# Altium footprint library Package_SO.PcbLib: 393 footprints (part 11 of 25)
Each footprint in its own frame and in the unit in brackets; x right, y up, seen from the top. Pads: shape width x height; smd on the part's side, far side on the other; paste and mask are expansions set on the pad; w line width, h text height; cw(c..) or ccw(c..) is an arc to the next point about the centre after c.
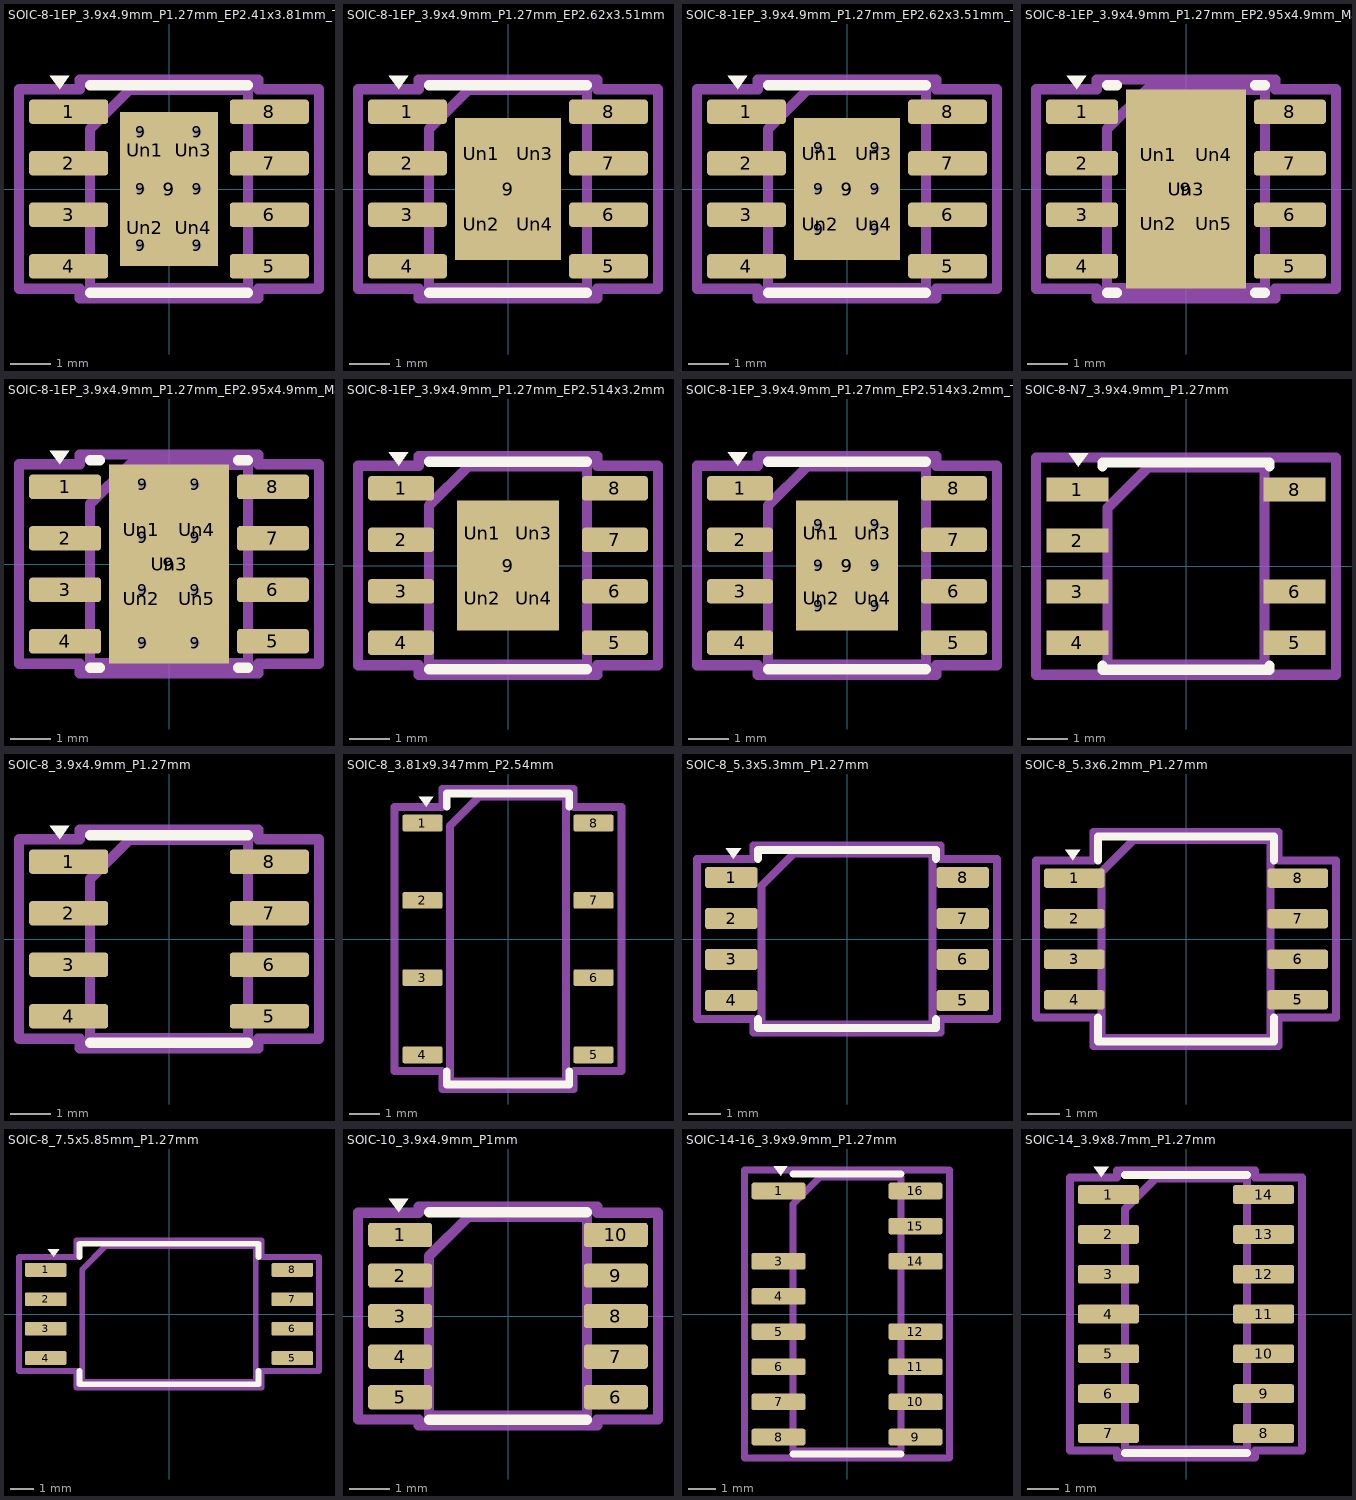
[diagram p10: the footprints below, top view; thin cyan lines are the x and y axes]

## SOIC-8-1EP_3.9x4.9mm_P1.27mm_EP2.41x3.81mm_ThermalVias [mm]
pads (20):
  rrect25% 1.95x0.6 smd: 1(-2.475,1.905) 2(-2.475,0.635) 3(-2.475,-0.635) 4(-2.475,-1.905) 5(2.475,-1.905) 6(2.475,-0.635) 7(2.475,0.635) 8(2.475,1.905)
  round 0.5 hole 0.2: 9(-0.7,-1.4) 9(-0.7,0) 9(-0.7,1.4) 9(0.7,-1.4) 9(0.7,0) 9(0.7,1.4)
  rect 2.41x3.81 smd: 9(0,0)
  rect 1.9x3.3 smd far side: 9(0,0)
  rrect25% 1.01x1.59 on Top Paste: Un1(-0.6,0.95) Un2(-0.6,-0.95) Un3(0.6,0.95) Un4(0.6,-0.95)
F.SilkS:
  region: -2.7,2.465 -2.94,2.795 -2.46,2.795
  lines w0.254: -1.95,-2.56 0,-2.56 1.95,-2.56 ; -1.95,2.56 0,2.56 1.95,2.56
Top Assembly:
  lines w0.254: -1.95,-2.45 1.95,-2.45 1.95,2.45 -0.975,2.45 -1.95,1.475 -1.95,-2.45
  text "'.Designator'" at -3.969,-0.827 h0.98
Top Courtyard:
  lines w0.254: -3.7,-2.46 -2.2,-2.46 -2.2,-2.7 2.2,-2.7 2.2,-2.46 3.7,-2.46 3.7,2.46 2.2,2.46 2.2,2.7 -2.2,2.7 -2.2,2.46 -3.7,2.46 -3.7,-2.46
Top Designator:
  text ".Designator" at -7.763,-0.508 h1.52

## SOIC-8-1EP_3.9x4.9mm_P1.27mm_EP2.62x3.51mm [mm]
pads (13):
  rrect25% 1.94x0.6 smd: 1(-2.48,1.905) 2(-2.48,0.635) 3(-2.48,-0.635) 4(-2.48,-1.905) 5(2.48,-1.905) 6(2.48,-0.635) 7(2.48,0.635) 8(2.48,1.905)
  rect 2.62x3.51 smd: 9(0,0)
  rrect24% 1.06x1.41 on Top Paste: Un1(-0.655,0.875) Un2(-0.655,-0.875) Un3(0.655,0.875) Un4(0.655,-0.875)
F.SilkS:
  region: -2.7,2.465 -2.94,2.795 -2.46,2.795
  lines w0.254: -1.95,-2.56 0,-2.56 1.95,-2.56 ; -1.95,2.56 0,2.56 1.95,2.56
Top Assembly:
  lines w0.254: -1.95,-2.45 1.95,-2.45 1.95,2.45 -0.975,2.45 -1.95,1.475 -1.95,-2.45
  text "'.Designator'" at -3.969,-0.827 h0.98
Top Courtyard:
  lines w0.254: -3.7,-2.46 -2.2,-2.46 -2.2,-2.7 2.2,-2.7 2.2,-2.46 3.7,-2.46 3.7,2.46 2.2,2.46 2.2,2.7 -2.2,2.7 -2.2,2.46 -3.7,2.46 -3.7,-2.46
Top Designator:
  text ".Designator" at -7.763,-0.508 h1.52

## SOIC-8-1EP_3.9x4.9mm_P1.27mm_EP2.62x3.51mm_ThermalVias [mm]
pads (20):
  rrect25% 1.94x0.6 smd: 1(-2.48,1.905) 2(-2.48,0.635) 3(-2.48,-0.635) 4(-2.48,-1.905) 5(2.48,-1.905) 6(2.48,-0.635) 7(2.48,0.635) 8(2.48,1.905)
  round 0.5 hole 0.2: 9(-0.7,-1) 9(-0.7,0) 9(-0.7,1) 9(0.7,-1) 9(0.7,0) 9(0.7,1)
  rect 2.62x3.51 smd: 9(0,0)
  rect 1.9x2.5 smd far side: 9(0,0)
  rrect23% 1.1x1.47 on Top Paste: Un1(-0.655,0.875) Un2(-0.655,-0.875) Un3(0.655,0.875) Un4(0.655,-0.875)
F.SilkS:
  region: -2.7,2.465 -2.94,2.795 -2.46,2.795
  lines w0.254: -1.95,-2.56 0,-2.56 1.95,-2.56 ; -1.95,2.56 0,2.56 1.95,2.56
Top Assembly:
  lines w0.254: -1.95,-2.45 1.95,-2.45 1.95,2.45 -0.975,2.45 -1.95,1.475 -1.95,-2.45
  text "'.Designator'" at -3.969,-0.827 h0.98
Top Courtyard:
  lines w0.254: -3.7,-2.46 -2.2,-2.46 -2.2,-2.7 2.2,-2.7 2.2,-2.46 3.7,-2.46 3.7,2.46 2.2,2.46 2.2,2.7 -2.2,2.7 -2.2,2.46 -3.7,2.46 -3.7,-2.46
Top Designator:
  text ".Designator" at -7.763,-0.508 h1.52

## SOIC-8-1EP_3.9x4.9mm_P1.27mm_EP2.95x4.9mm_Mask2.71x3.4mm [mm]
pads (14):
  rrect25% 1.775x0.6 smd: 1(-2.562,1.905) 2(-2.562,0.635) 3(-2.562,-0.635) 4(-2.562,-1.905) 5(2.562,-1.905) 6(2.562,-0.635) 7(2.562,0.635) 8(2.562,1.905)
  rect 2.95x4.9 smd: 9(0,0)
  rrect23% 1.09x1.37 on Top Paste: Un1(-0.68,0.85) Un2(-0.68,-0.85) Un4(0.68,0.85) Un5(0.68,-0.85)
  rect 2.71x3.4 on Top Solder: Un3(0,0)
F.SilkS:
  region: -2.7,2.465 -2.94,2.795 -2.46,2.795
  lines w0.254: -1.95,-2.56 -1.711,-2.56 ; -1.95,2.56 -1.711,2.56 ; 1.711,-2.56 1.95,-2.56 ; 1.711,2.56 1.95,2.56
Top Assembly:
  lines w0.254: -1.95,-2.45 1.95,-2.45 1.95,2.45 -0.975,2.45 -1.95,1.475 -1.95,-2.45
  text "'.Designator'" at -3.969,-0.827 h0.98
Top Courtyard:
  lines w0.254: -3.7,-2.46 -2.2,-2.46 -2.2,-2.7 2.2,-2.7 2.2,-2.46 3.7,-2.46 3.7,2.46 2.2,2.46 2.2,2.7 -2.2,2.7 -2.2,2.46 -3.7,2.46 -3.7,-2.46
Top Designator:
  text ".Designator" at -7.763,-0.508 h1.52

## SOIC-8-1EP_3.9x4.9mm_P1.27mm_EP2.95x4.9mm_Mask2.71x3.4mm_ThermalVias [mm]
pads (23):
  rrect25% 1.775x0.6 smd: 1(-2.562,1.905) 2(-2.562,0.635) 3(-2.562,-0.635) 4(-2.562,-1.905) 5(2.562,-1.905) 6(2.562,-0.635) 7(2.562,0.635) 8(2.562,1.905)
  round 0.5 hole 0.2: 9(-0.65,-1.95) 9(-0.65,-0.65) 9(-0.65,0.65) 9(-0.65,1.95) 9(0.65,-1.95) 9(0.65,-0.65) 9(0.65,0.65) 9(0.65,1.95)
  rect 2.95x4.9 smd: 9(0,0)
  rect 1.8x4.4 smd far side: 9(0,0)
  rrect22% 1.13x1.42 on Top Paste: Un1(-0.68,0.85) Un2(-0.68,-0.85) Un4(0.68,0.85) Un5(0.68,-0.85)
  rect 2.71x3.4 on Top Solder: Un3(0,0)
F.SilkS:
  region: -2.7,2.465 -2.94,2.795 -2.46,2.795
  lines w0.254: -1.95,-2.56 -1.711,-2.56 ; -1.95,2.56 -1.711,2.56 ; 1.711,-2.56 1.95,-2.56 ; 1.711,2.56 1.95,2.56
Top Assembly:
  lines w0.254: -1.95,-2.45 1.95,-2.45 1.95,2.45 -0.975,2.45 -1.95,1.475 -1.95,-2.45
  text "'.Designator'" at -3.969,-0.827 h0.98
Top Courtyard:
  lines w0.254: -3.7,-2.46 -2.2,-2.46 -2.2,-2.7 2.2,-2.7 2.2,-2.46 3.7,-2.46 3.7,2.46 2.2,2.46 2.2,2.7 -2.2,2.7 -2.2,2.46 -3.7,2.46 -3.7,-2.46
Top Designator:
  text ".Designator" at -7.763,-0.508 h1.52

## SOIC-8-1EP_3.9x4.9mm_P1.27mm_EP2.514x3.2mm [mm]
pads (13):
  rrect25% 1.625x0.6 smd: 1(-2.638,1.905) 2(-2.638,0.635) 3(-2.638,-0.635) 4(-2.638,-1.905) 5(2.638,-1.905) 6(2.638,-0.635) 7(2.638,0.635) 8(2.638,1.905)
  rect 2.514x3.2 smd: 9(0,0)
  rrect25% 1.01x1.29 on Top Paste: Un1(-0.63,0.8) Un2(-0.63,-0.8) Un3(0.63,0.8) Un4(0.63,-0.8)
F.SilkS:
  region: -2.7,2.465 -2.94,2.795 -2.46,2.795
  lines w0.254: -1.95,-2.56 0,-2.56 1.95,-2.56 ; -1.95,2.56 0,2.56 1.95,2.56
Top Assembly:
  lines w0.254: -1.95,-2.45 1.95,-2.45 1.95,2.45 -0.975,2.45 -1.95,1.475 -1.95,-2.45
  text "'.Designator'" at -3.969,-0.827 h0.98
Top Courtyard:
  lines w0.254: -3.7,-2.46 -2.2,-2.46 -2.2,-2.7 2.2,-2.7 2.2,-2.46 3.7,-2.46 3.7,2.46 2.2,2.46 2.2,2.7 -2.2,2.7 -2.2,2.46 -3.7,2.46 -3.7,-2.46
Top Designator:
  text ".Designator" at -7.763,-0.508 h1.52

## SOIC-8-1EP_3.9x4.9mm_P1.27mm_EP2.514x3.2mm_ThermalVias [mm]
pads (20):
  rrect25% 1.625x0.6 smd: 1(-2.638,1.905) 2(-2.638,0.635) 3(-2.638,-0.635) 4(-2.638,-1.905) 5(2.638,-1.905) 6(2.638,-0.635) 7(2.638,0.635) 8(2.638,1.905)
  round 0.5 hole 0.2: 9(-0.7,-1) 9(-0.7,0) 9(-0.7,1) 9(0.7,-1) 9(0.7,0) 9(0.7,1)
  rect 2.514x3.2 smd: 9(0,0)
  rect 1.9x2.5 smd far side: 9(0,0)
  rrect24% 1.05x1.34 on Top Paste: Un1(-0.63,0.8) Un2(-0.63,-0.8) Un3(0.63,0.8) Un4(0.63,-0.8)
F.SilkS:
  region: -2.7,2.465 -2.94,2.795 -2.46,2.795
  lines w0.254: -1.95,-2.56 0,-2.56 1.95,-2.56 ; -1.95,2.56 0,2.56 1.95,2.56
Top Assembly:
  lines w0.254: -1.95,-2.45 1.95,-2.45 1.95,2.45 -0.975,2.45 -1.95,1.475 -1.95,-2.45
  text "'.Designator'" at -3.969,-0.827 h0.98
Top Courtyard:
  lines w0.254: -3.7,-2.46 -2.2,-2.46 -2.2,-2.7 2.2,-2.7 2.2,-2.46 3.7,-2.46 3.7,2.46 2.2,2.46 2.2,2.7 -2.2,2.7 -2.2,2.46 -3.7,2.46 -3.7,-2.46
Top Designator:
  text ".Designator" at -7.763,-0.508 h1.52

## SOIC-8-N7_3.9x4.9mm_P1.27mm [mm]
pads (7):
  rect 1.55x0.6 smd: 1(-2.7,1.905) 2(-2.7,0.635) 3(-2.7,-0.635) 4(-2.7,-1.905) 5(2.7,-1.905) 6(2.7,-0.635) 8(2.7,1.905)
F.SilkS:
  region: -2.675,2.475 -2.915,2.805 -2.435,2.805
  lines w0.254: -2.075,-2.475 -2.075,-2.575 2.075,-2.575 2.075,-2.475 ; -2.075,2.475 -2.075,2.575 2.075,2.575 2.075,2.475
Top Assembly:
  lines w0.254: -1.95,-2.45 1.95,-2.45 1.95,2.45 -0.95,2.45 -1.95,1.45 -1.95,-2.45
  text "'.Designator'" at -4.047,-0.84 h1
Top Courtyard:
  lines w0.254: -3.73,-2.7 3.73,-2.7 3.73,2.7 -3.73,2.7 -3.73,-2.7
Top Designator:
  text ".Designator" at -7.768,-0.508 h1.52

## SOIC-8_3.9x4.9mm_P1.27mm [mm]
pads (8):
  rrect25% 1.95x0.6 smd: 1(-2.475,1.905) 2(-2.475,0.635) 3(-2.475,-0.635) 4(-2.475,-1.905) 5(2.475,-1.905) 6(2.475,-0.635) 7(2.475,0.635) 8(2.475,1.905)
F.SilkS:
  region: -2.7,2.465 -2.94,2.795 -2.46,2.795
  lines w0.254: -1.95,-2.56 0,-2.56 1.95,-2.56 ; -1.95,2.56 0,2.56 1.95,2.56
Top Assembly:
  lines w0.254: -1.95,-2.45 1.95,-2.45 1.95,2.45 -0.975,2.45 -1.95,1.475 -1.95,-2.45
  text "'.Designator'" at -3.969,-0.827 h0.98
Top Courtyard:
  lines w0.254: -3.7,-2.46 -2.2,-2.46 -2.2,-2.7 2.2,-2.7 2.2,-2.46 3.7,-2.46 3.7,2.46 2.2,2.46 2.2,2.7 -2.2,2.7 -2.2,2.46 -3.7,2.46 -3.7,-2.46
Top Designator:
  text ".Designator" at -7.763,-0.508 h1.52

## SOIC-8_3.81x9.347mm_P2.54mm [mm]
pads (8):
  rrect25% 1.325x0.55 smd: 1(-2.812,3.81) 2(-2.812,1.27) 3(-2.812,-1.27) 4(-2.812,-3.81) 5(2.812,-3.81) 6(2.812,-1.27) 7(2.812,1.27) 8(2.812,3.81)
F.SilkS:
  region: -2.69,4.345 -2.93,4.675 -2.45,4.675
  lines w0.254: -2.015,-4.345 -2.015,-4.784 0,-4.784 2.015,-4.784 2.015,-4.345 ; -2.015,4.345 -2.015,4.784 0,4.784 2.015,4.784 2.015,4.345
Top Assembly:
  lines w0.254: -1.905,-4.674 1.905,-4.674 1.905,4.674 -0.953,4.674 -1.905,3.721 -1.905,-4.674
  text "'.Designator'" at -3.842,-0.796 h0.95
Top Courtyard:
  lines w0.254: -3.73,-4.34 -2.16,-4.34 -2.16,-4.93 2.16,-4.93 2.16,-4.34 3.73,-4.34 3.73,4.34 2.16,4.34 2.16,4.93 -2.16,4.93 -2.16,4.34 -3.73,4.34 -3.73,-4.34
Top Designator:
  text ".Designator" at -7.68,-0.508 h1.52

## SOIC-8_5.3x5.3mm_P1.27mm [mm]
pads (8):
  rrect25% 1.625x0.65 smd: 1(-3.588,1.905) 2(-3.588,0.635) 3(-3.588,-0.635) 4(-3.588,-1.905) 5(3.588,-1.905) 6(3.588,-0.635) 7(3.588,0.635) 8(3.588,1.905)
F.SilkS:
  region: -3.525,2.49 -3.765,2.82 -3.285,2.82
  lines w0.254: -2.76,-2.49 -2.76,-2.76 0,-2.76 2.76,-2.76 2.76,-2.49 ; -2.76,2.49 -2.76,2.76 0,2.76 2.76,2.76 2.76,2.49
Top Assembly:
  lines w0.254: -2.65,-2.65 2.65,-2.65 2.65,2.65 -1.65,2.65 -2.65,1.65 -2.65,-2.65
  text "'.Designator'" at -4.047,-0.84 h1
Top Courtyard:
  lines w0.254: -4.65,-2.48 -2.9,-2.48 -2.9,-2.9 2.9,-2.9 2.9,-2.48 4.65,-2.48 4.65,2.48 2.9,2.48 2.9,2.9 -2.9,2.9 -2.9,2.48 -4.65,2.48 -4.65,-2.48
Top Designator:
  text ".Designator" at -7.618,-0.508 h1.52

## SOIC-8_5.3x6.2mm_P1.27mm [mm]
pads (8):
  rrect25% 1.9x0.6 smd: 1(-3.5,1.905) 2(-3.5,0.635) 3(-3.5,-0.635) 4(-3.5,-1.905) 5(3.5,-1.905) 6(3.5,-0.635) 7(3.5,0.635) 8(3.5,1.905)
F.SilkS:
  region: -3.55,2.465 -3.79,2.795 -3.31,2.795
  lines w0.254: -2.76,-2.465 -2.76,-3.21 0,-3.21 2.76,-3.21 2.76,-2.465 ; -2.76,2.465 -2.76,3.21 0,3.21 2.76,3.21 2.76,2.465
Top Assembly:
  lines w0.254: -2.65,-3.1 2.65,-3.1 2.65,3.1 -1.65,3.1 -2.65,2.1 -2.65,-3.1
  text "'.Designator'" at -4.047,-0.84 h1
Top Courtyard:
  lines w0.254: -4.7,-2.46 -2.9,-2.46 -2.9,-3.35 2.9,-3.35 2.9,-2.46 4.7,-2.46 4.7,2.46 2.9,2.46 2.9,3.35 -2.9,3.35 -2.9,2.46 -4.7,2.46 -4.7,-2.46
Top Designator:
  text ".Designator" at -7.618,-0.508 h1.52

## SOIC-8_7.5x5.85mm_P1.27mm [mm]
pads (8):
  rrect25% 1.8x0.6 smd: 1(-5.325,1.905) 2(-5.325,0.635) 3(-5.325,-0.635) 4(-5.325,-1.905) 5(5.325,-1.905) 6(5.325,-0.635) 7(5.325,0.635) 8(5.325,1.905)
F.SilkS:
  region: -4.988,2.465 -5.228,2.795 -4.747,2.795
  lines w0.254: -3.86,-2.465 -3.86,-3.035 0,-3.035 3.86,-3.035 3.86,-2.465 ; -3.86,2.465 -3.86,3.035 0,3.035 3.86,3.035 3.86,2.465
Top Assembly:
  lines w0.254: -3.75,-2.925 3.75,-2.925 3.75,2.925 -2.75,2.925 -3.75,1.925 -3.75,-2.925
  text "'.Designator'" at -4.047,-0.84 h1
Top Courtyard:
  lines w0.254: -6.48,-2.46 -4,-2.46 -4,-3.18 4,-3.18 4,-2.46 6.48,-2.46 6.48,2.46 4,2.46 4,3.18 -4,3.18 -4,2.46 -6.48,2.46 -6.48,-2.46
Top Designator:
  text ".Designator" at -7.618,-0.508 h1.52

## SOIC-10_3.9x4.9mm_P1mm [mm]
pads (10):
  rrect25% 1.575x0.6 smd: 1(-2.662,2) 2(-2.662,1) 3(-2.662,0) 4(-2.662,-1) 5(-2.662,-2) 6(2.662,-2) 7(2.662,-1) 8(2.662,0) 9(2.662,1) 10(2.662,2)
F.SilkS:
  region: -2.7,2.56 -2.94,2.89 -2.46,2.89
  lines w0.254: -1.95,-2.56 0,-2.56 1.95,-2.56 ; -1.95,2.56 0,2.56 1.95,2.56
Top Assembly:
  lines w0.254: -1.95,-2.45 1.95,-2.45 1.95,2.45 -0.975,2.45 -1.95,1.475 -1.95,-2.45
  text "'.Designator'" at -3.969,-0.827 h0.98
Top Courtyard:
  lines w0.254: -3.7,-2.55 -2.2,-2.55 -2.2,-2.7 2.2,-2.7 2.2,-2.55 3.7,-2.55 3.7,2.55 2.2,2.55 2.2,2.7 -2.2,2.7 -2.2,2.55 -3.7,2.55 -3.7,-2.55
Top Designator:
  text ".Designator" at -7.763,-0.476 h1.52

## SOIC-14-16_3.9x9.9mm_P1.27mm [mm]
pads (14):
  rrect25% 1.95x0.6 smd: 1(-2.475,4.445) 3(-2.475,1.905) 4(-2.475,0.635) 5(-2.475,-0.635) 6(-2.475,-1.905) 7(-2.475,-3.175) 8(-2.475,-4.445) 9(2.475,-4.445) 10(2.475,-3.175) 11(2.475,-1.905) 12(2.475,-0.635) 14(2.475,1.905) 15(2.475,3.175) 16(2.475,4.445)
F.SilkS:
  region: -2.4,5 -2.64,5.33 -2.16,5.33
  lines w0.254: -1.95,-5.06 0,-5.06 1.95,-5.06 ; -1.95,5.06 0,5.06 1.95,5.06
Top Assembly:
  lines w0.254: -1.95,-4.95 1.95,-4.95 1.95,4.95 -0.975,4.95 -1.95,3.975 -1.95,-4.95
  text "'.Designator'" at -3.969,-0.827 h0.98
Top Courtyard:
  lines w0.254: -3.7,-5.2 3.7,-5.2 3.7,5.2 -3.7,5.2 -3.7,-5.2
Top Designator:
  text ".Designator" at -7.763,-0.506 h1.52

## SOIC-14_3.9x8.7mm_P1.27mm [mm]
pads (14):
  rrect25% 1.95x0.6 smd: 1(-2.475,3.81) 2(-2.475,2.54) 3(-2.475,1.27) 4(-2.475,0) 5(-2.475,-1.27) 6(-2.475,-2.54) 7(-2.475,-3.81) 8(2.475,-3.81) 9(2.475,-2.54) 10(2.475,-1.27) 11(2.475,0) 12(2.475,1.27) 13(2.475,2.54) 14(2.475,3.81)
F.SilkS:
  region: -2.7,4.37 -2.94,4.7 -2.46,4.7
  lines w0.254: -1.95,-4.435 0,-4.435 1.95,-4.435 ; -1.95,4.435 0,4.435 1.95,4.435
Top Assembly:
  lines w0.254: -1.95,-4.325 1.95,-4.325 1.95,4.325 -0.975,4.325 -1.95,3.35 -1.95,-4.325
  text "'.Designator'" at -3.969,-0.827 h0.98
Top Courtyard:
  lines w0.254: -3.7,-4.36 -2.2,-4.36 -2.2,-4.58 2.2,-4.58 2.2,-4.36 3.7,-4.36 3.7,4.36 2.2,4.36 2.2,4.58 -2.2,4.58 -2.2,4.36 -3.7,4.36 -3.7,-4.36
Top Designator:
  text ".Designator" at -7.763,-0.508 h1.52